# EAGLE library part LM4875MX (library FSAE Eletric)
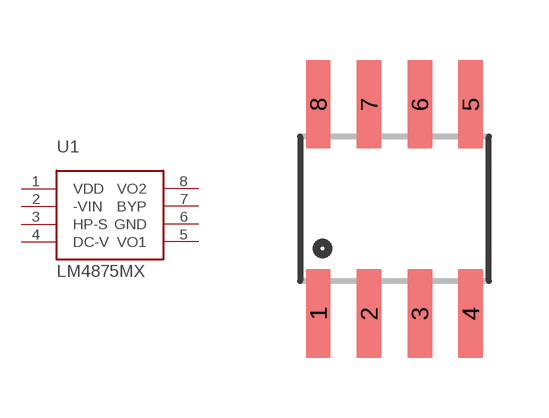
[diagram p23: symbol with the pads of SO-8; footprint SO-8]

Designator prefix U1

## LM4875MX (PARTNO: LM4875MX/NOPB)  [SO-8]
1  VDD
2  -VIN
3  HP-S
4  DC-V
5  VO1
6  GND
7  BYP
8  VO2

## Footprint SO-8 (pad centres in mm)
smd 0.61 x 2.21: 1 -1.905,-2.616; 2 -0.635,-2.616; 3 0.635,-2.616; 4 1.905,-2.616; 5 1.905,2.616; 6 0.635,2.616; 7 -0.635,2.616; 8 -1.905,2.616